# Altium schematic symbol library ERJB3CFR15V.SchLib: 1 symbol
Pins are listed as number, name and electrical type; pins without a type are passive.

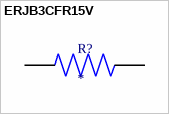
[diagram p0: symbol ERJB3CFR15V]

## ERJB3CFR15V
designator R?
MP: ERJB3CFR15V; Package: None; Price: None; Availability: Unavailable; Value: *
footprint RES_ERJB3CFR15V
pins: 1, 2